# Altium footprint library Footprints.PcbLib: 132 footprints (part 2 of 9)
Each footprint in its own frame and in the unit in brackets; x right, y up, seen from the top. Pads: shape width x height; smd on the part's side, far side on the other; paste and mask are expansions set on the pad; w line width, h text height; cw(c..) or ccw(c..) is an arc to the next point about the centre after c.
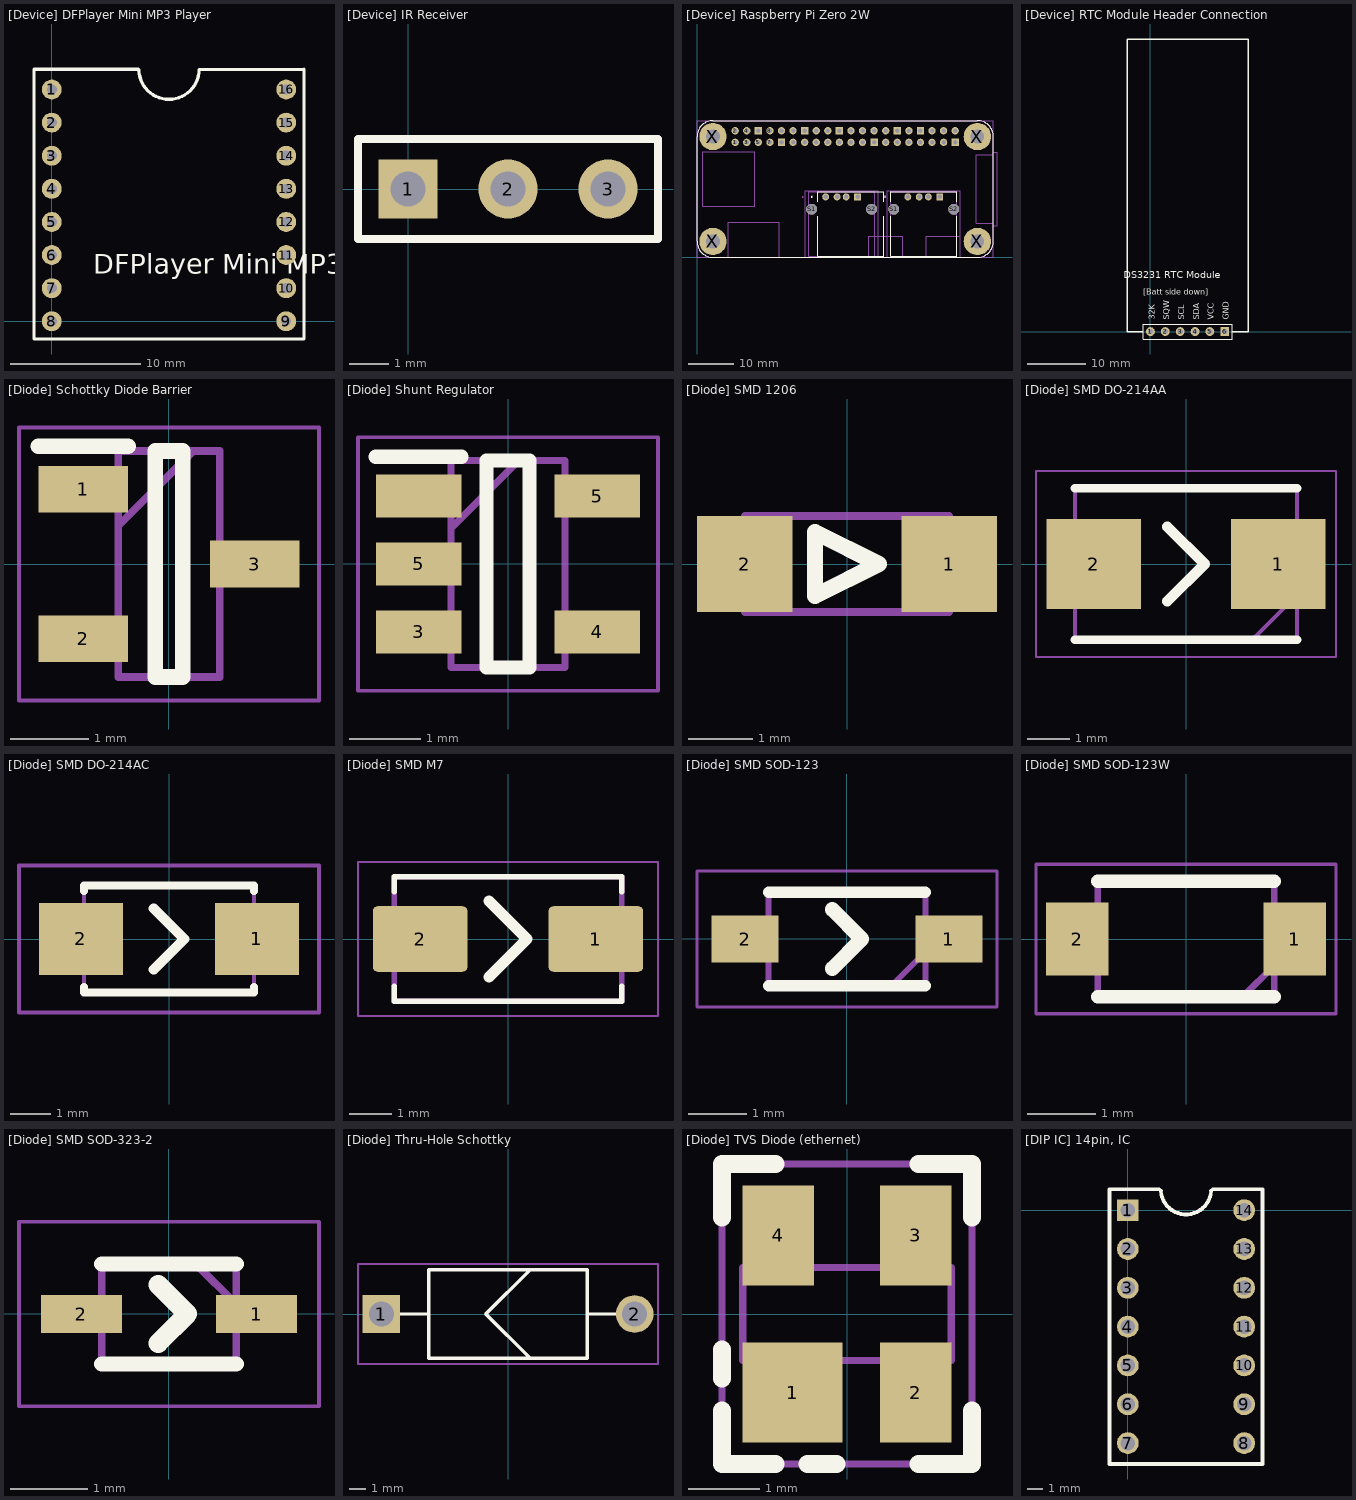
[diagram p1: the footprints below, top view; thin cyan lines are the x and y axes]

## [Device] DFPlayer Mini MP3 Player [mil]
pads (16):
  round 60 hole 30: 1(0,700) 2(0,600) 3(0,500) 4(0,400) 5(0,300) 6(0,200) 7(0,100) 8(0,0) 9(707.87,0) 10(707.87,100) 11(707.87,200) 12(707.87,300) 13(707.87,400) 14(707.87,500) 15(707.87,600) 16(707.87,700)
Top Overlay:
  lines w10: 261.5,761.42 -53.54,761.42 -53.54,-53.54 761.42,-53.54 761.42,761.42 ; 262.87,760.04 ccw(c353.94,761.42) 445,760.2 760.2,760.2
  text "DFPlayer Mini MP3 Player" at 125.66,144.14 h59.06
3D body "DFPlayer Mini.step": height 236.22, standoff -204.72, extent -51.18,-163.78 767.72,759.84

## [Device] IR Receiver [mm]
pads (3):
  rect 1.5x1.5 hole 0.9: 1(0,0)
  round 1.5 hole 0.9: 2(2.54,0) 3(5.08,0)
Top Overlay:
  lines w0.2: -1.27,-1.27 -1.27,1.27 6.35,1.27 6.35,-1.27 -1.27,-1.27

## [Device] Raspberry Pi Zero 2W [mm]
pads (56):
  round 1.6 hole 1: 1(8.37,25.23) 2(8.37,27.77) 3(10.91,25.23) 4(10.91,27.77) 5(13.45,25.23) 7(15.99,25.23) 8(15.99,27.77) 10(18.53,27.77) 11(21.07,25.23) 12(21.07,27.77) 13(23.61,25.23) 15(26.15,25.23) 16(26.15,27.77) 17(28.69,25.23) 18(28.69,27.77) 19(31.23,25.23) 21(33.77,25.23) 22(33.77,27.77) 23(36.31,25.23) 24(36.31,27.77) 26(38.85,27.77) 27(41.39,25.23) 28(41.39,27.77) 29(43.93,25.23) 31(46.47,25.23) 32(46.47,27.77) 33(49.01,25.23) 35(51.55,25.23) 36(51.55,27.77) 37(54.09,25.23) 38(54.09,27.77) 40(56.63,27.77)
  round 1.508 hole 1: +5V(28.22,13.26) +5V(46.24,13.26) D+(32.72,13.26) D-(30.72,13.26) ""(48.74,13.26) ""(50.74,13.26)
  rect 1.6x1.6 hole 1: GND(13.45,27.77) GND(18.53,25.23) GND(23.61,27.77) GND(31.23,27.77) GND(38.85,25.23) GND(43.93,27.77) GND(49.01,27.77) GND(56.63,25.23)
  rect 1.508x1.508 hole 1: GND(35.22,13.26) GND(53.24,13.26)
  round 2.38 hole 2.38 unplated: S1(25.15,10.55) S1(43.17,10.55) S2(38.29,10.55) S2(56.31,10.55)
  round 6 hole 3: X(3.5,3.5) X(3.5,26.5) X(61.5,3.5) X(61.5,26.5)
Top Overlay:
  circle w0.2: c25.21,13.26 r0.1
  circle w0.2: c41.23,13.26 r0.1
  lines w0.127: 26.47,9 26.47,0.25 40.97,0.25 40.97,9 ; 26.47,12.2 26.47,14.35 40.97,14.35 40.97,12.2 ; 42.49,9 42.49,0.25 56.99,0.25 56.99,9 ; 42.49,12.2 42.49,14.35 56.99,14.35 56.99,12.2
  lines w0.254: 0,3.5 ccw(c3.5,3.5) 3.5,0 61.5,0 ccw(c61.5,3.5) 65,3.5 65,26.5 ccw(c61.5,26.5) 61.5,30 3.5,30 ccw(c3.5,26.5) 0,26.5 0,3.5
Physical Outline:
  circle w0.2: c23.21,13.26 r0.1
  circle w0.2: c41.23,13.26 r0.1
  lines w0.127: 24.47,0.25 24.47,14.35 38.97,14.35 38.97,0.25 24.47,0.25 ; 42.49,0.25 42.49,14.35 56.99,14.35 56.99,0.25 42.49,0.25
  lines w0.254: 0,3.5 ccw(c3.5,3.5) 3.5,0 ; 0,26.5 cw(c3.5,26.5) 3.5,30 ; 6.8,0 6.8,7.7 18,7.7 18,0 ; 37.65,0 37.65,4.67 45.15,4.67 45.15,0 ; 50.25,0 50.25,4.67 57.75,4.67 57.75,0 ; 61.5,0 ccw(c61.5,3.5) 65,3.5 ; 61.5,30 cw(c61.5,26.5) 65,26.5 ; 65,6.9 65.8,6.9 65.8,23.1 65,23.1 ; 65,7.5 61.25,7.5 61.25,22.5 65,22.5 ; 0,0 65,0 65,30 0,30 0,0 ; 1.3,11.17 12.7,11.17 12.7,23.12 1.3,23.12 1.3,11.17
Part Border:
  lines w0.05: 23.71,0 39.73,0 39.73,14.6 23.71,14.6 23.71,0 ; 41.73,0 41.73,14.6 57.75,14.6 57.75,0 41.73,0
3D body "USB Type A Female.STEP": height 7.6, standoff -3.2, extent 23.82,0.25 39.62,14.35
3D body "USB Type A Female.STEP": height 7.6, standoff -3.2, extent 41.84,0.25 57.64,14.35
3D body "RP 2W Standoff - 9mm Standoff.step": height 9, standoff 0, extent 0.506,23.503 6.494,29.497
3D body "RP 2W Standoff - 9mm Standoff.step": height 9, standoff 0, extent 0.512,0.503 6.5,6.497
3D body "Pin Header 1x10 TH Pitch 2.54mm.stp": height 11.2, standoff -1.5, extent 32.5,26.5 57.9,29.04
3D body "Raspberry Pi Zero 2 W.STEP": height 13.25, standoff 8.2, extent 0,-0.576 65.8,30
3D body "Pin Header 1x10 TH Pitch 2.54mm.stp": height 11.2, standoff -1.5, extent 7.1,23.96 32.5,26.5
3D body "Pin Header 1x10 TH Pitch 2.54mm.stp": height 11.2, standoff -1.5, extent 32.5,23.96 57.9,26.5
3D body "Pin Header 1x10 TH Pitch 2.54mm.stp": height 11.2, standoff -1.5, extent 7.1,26.5 32.5,29.04
3D body "20-Pin Header - Female - 2.54mm.step": height 5, standoff -3, extent 6.88,23.96 58.18,26.46
3D body "20-Pin Header - Female - 2.54mm.step": height 5, standoff -3, extent 6.88,26.46 58.18,28.96
3D body "RP 2W Standoff - 9mm Standoff.step": height 9, standoff 0, extent 58.512,23.503 64.5,29.497
3D body "RP 2W Standoff - 9mm Standoff.step": height 9, standoff 0, extent 58.506,0.503 64.494,6.497

## [Device] RTC Module Header Connection [mm]
pads (6):
  round 1.5 hole 0.9: 1(0,0) 2(2.54,0) 3(5.08,0) 4(7.62,0) 5(10.16,0)
  rect 1.5x1.5 hole 0.9: 6(12.7,0)
Top Overlay:
  lines w0.2: -1.27,-1.27 13.97,-1.27 13.97,1.27 -1.27,1.27 -1.27,-1.27
  lines w0.254: -1.27,0 -4,0 -4,50 16.7,50 16.7,0 13.97,0
  text "DS3231 RTC Module" at -4.544,9.15 h1.2
  text "[Batt side down]" at -1.246,6.3 h1
  text "32K" at 0.7,2 h1
  text "SQW" at 3.24,2 h1
  text "SCL" at 5.78,2 h1
  text "SDA" at 8.32,2 h1
  text "VCC" at 10.86,2 h1
  text "GND" at 13.4,2 h1
3D body "RTC & 90deg Header Assembly.step": height 2.99, standoff -11.12, extent -4.5,-0.446 17.2,47.254

## [Diode] Schottky Diode Barrier [mm]
pads (3):
  rect 1.15x0.6 smd: 1(-1.1,0.96) 2(-1.1,-0.96) 3(1.1,0)
Top Overlay:
  lines w0.2: -1.675,1.51 -0.525,1.51 ; -0.175,-1.45 0.175,-1.45 0.175,1.45 -0.175,1.45 -0.175,-1.45
Physical Outline:
  lines w0.1: -0.65,0.49 0.31,1.45 ; -0.65,-1.45 0.65,-1.45 0.65,1.45 -0.65,1.45 -0.65,-1.45
Part Border:
  lines w0.05: -1.925,-1.75 1.925,-1.75 1.925,1.75 -1.925,1.75 -1.925,-1.75
3D body "BAT54S-7-F.stp": height 1.15, standoff 0, extent -1.2,-1.45 1.2,1.45

## [Diode] Shunt Regulator [mm] "TL431IDBVR"
pads (5):
  rect 1.2x0.6 smd: 3(-1.25,-0.95) 4(1.25,-0.95) 5(-1.25,0) 5(1.25,0.95) ""(-1.25,0.95)
Top Overlay:
  lines w0.2: -1.85,1.5 -0.65,1.5 ; -0.3,-1.45 0.3,-1.45 0.3,1.45 -0.3,1.45 -0.3,-1.45
Physical Outline:
  lines w0.1: -0.8,0.5 0.15,1.45 ; -0.8,-1.45 0.8,-1.45 0.8,1.45 -0.8,1.45 -0.8,-1.45
Part Border:
  lines w0.05: -2.1,-1.775 2.1,-1.775 2.1,1.775 -2.1,1.775 -2.1,-1.775
3D body "TL431IDBVR.stp": height 1.2, standoff 0, extent -1.4,-1.45 1.4,1.45

## [Diode] SMD 1206 [mm]
pads (2):
  rect 1.5x1.5 smd: 1(1.6,0) 2(-1.6,0)
Top Overlay:
  lines w0.254: -0.5,-0.5 -0.5,0.5 0.5,0 -0.5,-0.5
Physical Outline:
  lines w0.127: -1.6,-0.75 1.6,-0.75 1.6,0.75 -1.6,0.75 -1.6,-0.75
3D body "SMD Diode [1206].STEP": height 0.75, standoff 0, extent -1.5,-0.65 1.5,0.65

## [Diode] SMD DO-214AA [mm]
pads (2):
  rect 2.25x2.15 smd: 1(2.2,0) 2(-2.2,0)
Top Overlay:
  lines w0.2: -2.648,-1.81 2.648,-1.81 ; -2.648,1.81 2.648,1.81
  lines w0.254: -0.445,-0.89 0.444,0 -0.445,0.888
Physical Outline:
  lines w0.1: 1.572,-1.81 2.648,-0.735 ; -2.648,-1.81 2.648,-1.81 2.648,1.81 -2.648,1.81 -2.648,-1.81
Part Border:
  lines w0.05: -3.575,-2.22 3.575,-2.22 3.575,2.22 -3.575,2.22 -3.575,-2.22
3D body "B2100-13-F.stp": height 2.3, standoff 0, extent -2.681,-1.748 2.679,1.752

## [Diode] SMD DO-214AC [mm]
pads (2):
  rect 2.1x1.8 smd: 1(2.2,0.001) 2(-2.2,0.001)
Top Overlay:
  lines w0.2: -2.123,-1.199 -2.123,-1.332 2.123,-1.332 2.123,-1.199 ; -2.123,1.201 -2.123,1.333 2.123,1.333 2.123,1.201
  lines w0.254: -0.381,-0.762 0.381,0 -0.381,0.762
Physical Outline:
  lines w0.1: -2.123,-1.332 -2.123,1.333 2.123,1.333 2.123,-1.332 -2.123,-1.332
Part Border:
  lines w0.1: -3.75,-1.832 3.75,-1.832 3.75,1.833 -3.75,1.833 -3.75,-1.832
3D body "K0820S1URP.stp": height 2.39, standoff 0, extent -3.07,-1.332 3.07,1.333

## [Diode] SMD M7 [mm]
pads (2):
  rrect15% 2.21x1.53 smd: 1(2.05,0) 2(-2.05,0)
Top Overlay:
  lines w0.127: -2.65,-1.1 -2.65,-1.45 2.65,-1.45 2.65,-1.1 ; -2.65,1.1 -2.65,1.45 2.65,1.45 2.65,1.1
  lines w0.254: -0.444,-0.889 0.445,0 -0.444,0.889
Physical Outline:
  lines w0.127: -2.65,-1.45 2.65,-1.45 2.65,1.45 -2.65,1.45 -2.65,-1.45
Part Border:
  lines w0.05: -3.5,-1.8 3.5,-1.8 3.5,1.8 -3.5,1.8 -3.5,-1.8
3D body "SMD M7 Rectifier.STEP": height 2.37, standoff 0.2, extent -2.525,-1.35 2.525,1.35

## [Diode] SMD SOD-123 [mm]
pads (2):
  rect 1.15x0.8 smd: 1(1.75,0) 2(-1.75,0)
Top Overlay:
  lines w0.2: -1.345,-0.8 1.345,-0.8 ; -1.345,0.8 1.345,0.8
  lines w0.254: -0.254,-0.508 0.254,0 -0.254,0.508
Physical Outline:
  lines w0.1: 0.77,-0.8 1.345,-0.225 ; -1.345,-0.8 1.345,-0.8 1.345,0.8 -1.345,0.8 -1.345,-0.8
Part Border:
  lines w0.05: -2.575,-1.17 2.575,-1.17 2.575,1.17 -2.575,1.17 -2.575,-1.17
3D body "MMSD914T1G.stp": height 1.35, standoff 0, extent -1.855,-0.8 1.855,0.8

## [Diode] SMD SOD-123W [mm] "SMD SOD-123W"
pads (2):
  rect 0.92x1.08 smd: 1(1.6,0) 2(-1.6,0)
Top Overlay:
  lines w0.2: -1.3,-0.85 1.3,-0.85 ; -1.3,0.85 1.3,0.85
Physical Outline:
  lines w0.1: 0.84,-0.85 1.3,-0.39 ; -1.3,-0.85 1.3,-0.85 1.3,0.85 -1.3,0.85 -1.3,-0.85
Part Border:
  lines w0.05: -2.21,-1.1 2.21,-1.1 2.21,1.1 -2.21,1.1 -2.21,-1.1
3D body "PMEG6010ELR-QX.stp": height 1.07, standoff 0, extent -1.752,-1.001 1.748,0.999

## [Diode] SMD SOD-323-2 [mm]
pads (2):
  rect 1.05x0.5 smd: 1(1.138,0) 2(-1.138,0)
Top Overlay:
  lines w0.2: -0.875,-0.65 0.875,-0.65 ; -0.875,0.65 0.875,0.65
  lines w0.254: -0.143,-0.38 0.238,0.001 -0.143,0.382
Physical Outline:
  lines w0.1: 0.35,0.65 0.875,0.125 ; -0.875,-0.65 -0.875,0.65 0.875,0.65 0.875,-0.65 -0.875,-0.65
Part Border:
  lines w0.05: -1.95,-1.2 -1.95,1.2 1.95,1.2 1.95,-1.2 -1.95,-1.2
3D body "BAT60AE6327HTSA1.stp": height 1.1, standoff 0, extent -1.25,-0.65 1.25,0.65

## [Diode] Thru-Hole Schottky [mm] "1N5822"
pads (2):
  rect 2.25x2.25 hole 1.5: 1(-7.6,0)
  round 2.25 hole 1.5: 2(7.6,0)
Top Overlay:
  lines w0.2: -7.6,0 -4.75,0 ; 1.327,-2.655 -1.328,0 1.327,2.655 ; 4.75,0 7.6,0 ; -4.75,-2.65 -4.75,2.65 4.75,2.65 4.75,-2.65 -4.75,-2.65
Physical Outline:
  lines w0.1: -7.6,0 -4.75,0 ; 4.75,0 7.6,0 ; -4.75,-2.65 -4.75,2.65 4.75,2.65 4.75,-2.65 -4.75,-2.65
Part Border:
  lines w0.1: -9,-3 -9,3 9,3 9,-3 -9,-3
3D body "[Diode] Thru-Hole Schottky.STEP": height 7.16, standoff -1.5, extent -8.27,-2.66 8.27,2.66

## [Diode] TVS Diode (ethernet) [mm] "CD143A-SR2.8"
pads (4):
  rect 1.4x1.4 smd: 1(-0.76,-1.1)
  rect 1x1.4 smd: 2(0.96,-1.1) 3(0.96,1.1) 4(-0.96,1.1)
Top Overlay:
  lines w0.254: -1.75,-1.35 -1.75,-2.1 -1,-2.1 ; -1.75,-0.9 -1.75,-0.5 ; -1.75,1.35 -1.75,2.1 -1,2.1 ; -0.55,-2.1 -0.15,-2.1 ; 1,-2.1 1.75,-2.1 1.75,-1.35 ; 1,2.1 1.75,2.1 1.75,1.35
Physical Outline:
  lines w0.1: -1.46,-0.65 1.46,-0.65 1.46,0.65 -1.46,0.65 -1.46,-0.65
Part Border:
  lines w0.1: -1.75,-2.1 -1.75,2.1 1.75,2.1 1.75,-2.1 -1.75,-2.1
3D body "CD143A-SR2.8.stp": height 1.3, standoff 0, extent -1.46,-1.7 1.46,1.7

## [DIP IC] 14pin, IC [mm] "Bare IC (no socket)"
pads (14):
  rect 1.425x1.425 hole 0.95: 1(0,0)
  round 1.425 hole 0.95: 2(0,-2.54) 3(0,-5.08) 4(0,-7.62) 5(0,-10.16) 6(0,-12.7) 7(0,-15.24) 8(7.62,-15.24) 9(7.62,-12.7) 10(7.62,-10.16) 11(7.62,-7.62) 12(7.62,-5.08) 13(7.62,-2.54) 14(7.62,0)
Top Overlay:
  lines w0.254: -1.19,-16.61 -1.19,1.37 2.062,1.37 2.162,1.27 ccw(c3.81,1.37) 5.458,1.27 5.558,1.37 8.81,1.37 8.81,-16.61 -1.19,-16.61
3D body "14pin DIP IC.step": height 3.6, standoff -3.75, extent -0.758,-16.37 8.378,1.13